# EAGLE library part SWITCH,BUTTON,RECT,6X12MM (library StdBxLibrary_BETA_)
BETA! SB0019 - Switch, Push Button, DPDT, PTH, 200mA, 14V, 6x12mm Rect Cap Available in Momentary and Push-on/Push-off with various color caps
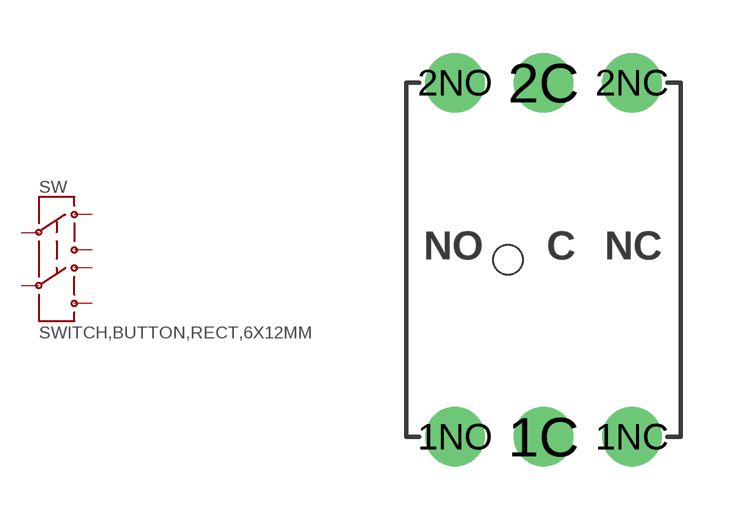
[diagram p6: symbol with the pads of 8X10_BUTTON_RECT; footprint 8X10_BUTTON_RECT]

Designator prefix SW

## SWITCH,BUTTON,RECT,6X12MM  [8X10_BUTTON_RECT]
1C  1C
1NC  1NC
1NO  1NO
2C  2C
2NC  2NC
2NO  2NO

## Footprint 8X10_BUTTON_RECT (pad centres in mm)
drill 0.95 pad 1.676: 1C 0,-5; 1NC 2.5,-5; 1NO -2.5,-5; 2C 0,5; 2NC 2.5,5; 2NO -2.5,5
hole 0.85 at -1,0